# EAGLE library part RGB-SMT-SQUARE (library kalshagar)
A simple SMD RGB led square in about 6x6.6mm. Different models possible, be careful of the pinout (can be interverted so annotate your schema) Sold here http://akizukidenshi.com/catalog/g/gI-02225/
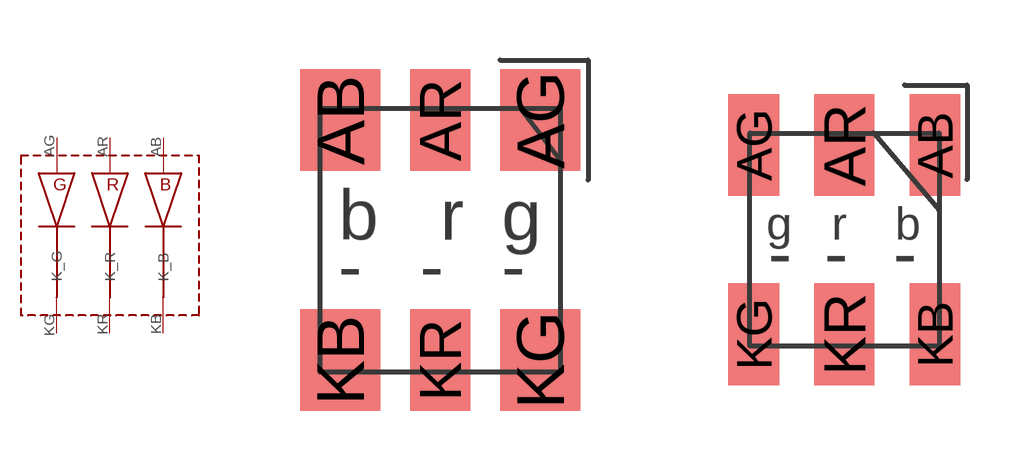
[diagram p1: symbol with the pads of SMT-SQUARE6; footprints SMT-SQUARE6, SMT-SQUARE5]

Designator prefix -

## RGB-SMT-SQUARE6X6MM  [SMT-SQUARE6]
AB  ANODE_B
AG  ANODE_G
AR  ANODE_R
KB  K_B
KG  K_G
KR  K_R

## RGB-SMT-SQUARE5X5MM  [SMT-SQUARE5]
Pads as for SMT-SQUARE6

## Footprint SMT-SQUARE6 (pad centres in mm)
smd 2 x 2.54: AB 0.5,3; AG 5.5,3; KB 0.5,-3; KG 5.5,-3
smd 1.5 x 2.54: AR 3,3; KR 3,-3

## Footprint SMT-SQUARE5 (pad centres in mm)
smd 1.27 x 2.54: AB 4.628,4.905; AG 0.102,4.905; KB 4.628,0.175; KG 0.102,0.175
smd 1.5 x 2.54: AR 2.365,4.905; KR 2.365,0.175